# EAGLE library part LCD-S301 (library wheat)
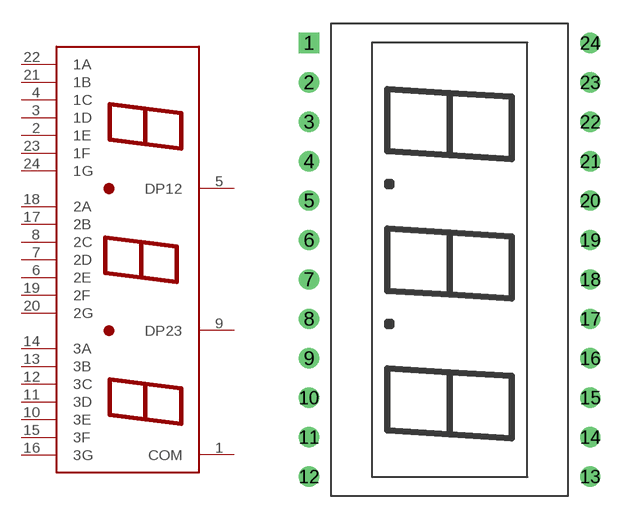
[diagram p266: symbol with the pads of LCD-S301_DIP; footprint LCD-S301_DIP]

Designator prefix -

## LCD-S301  [LCD-S301_DIP]
1  COM
2  1E
3  1D
4  1C
5  DP12
6  2E
7  2D
8  2C
9  DP23
10  3E
11  3D
12  3C
13  3B
14  3A
15  3F
16  3G
17  2B
18  2A
19  2F
20  2G
21  1B
22  1A
23  1F
24  1G

## Footprint LCD-S301_DIP (pad centres in mm)
drill 0.8 square: 1 -9.055,13.97
drill 0.8: 2 -9.055,11.43; 3 -9.055,8.89; 4 -9.055,6.35; 5 -9.055,3.81; 6 -9.055,1.27; 7 -9.055,-1.27; 8 -9.055,-3.81; 9 -9.055,-6.35; 10 -9.055,-8.89; 11 -9.055,-11.43; 12 -9.055,-13.97; 13 9.055,-13.97; 14 9.055,-11.43; 15 9.055,-8.89; 16 9.055,-6.35; 17 9.055,-3.81; 18 9.055,-1.27; 19 9.055,1.27; 20 9.055,3.81; 21 9.055,6.35; 22 9.055,8.89; 23 9.055,11.43; 24 9.055,13.97